# Altium integrated library LibEtudiants.IntLib: 8 symbols
Pins are listed as number, name and electrical type; pins without a type are passive.

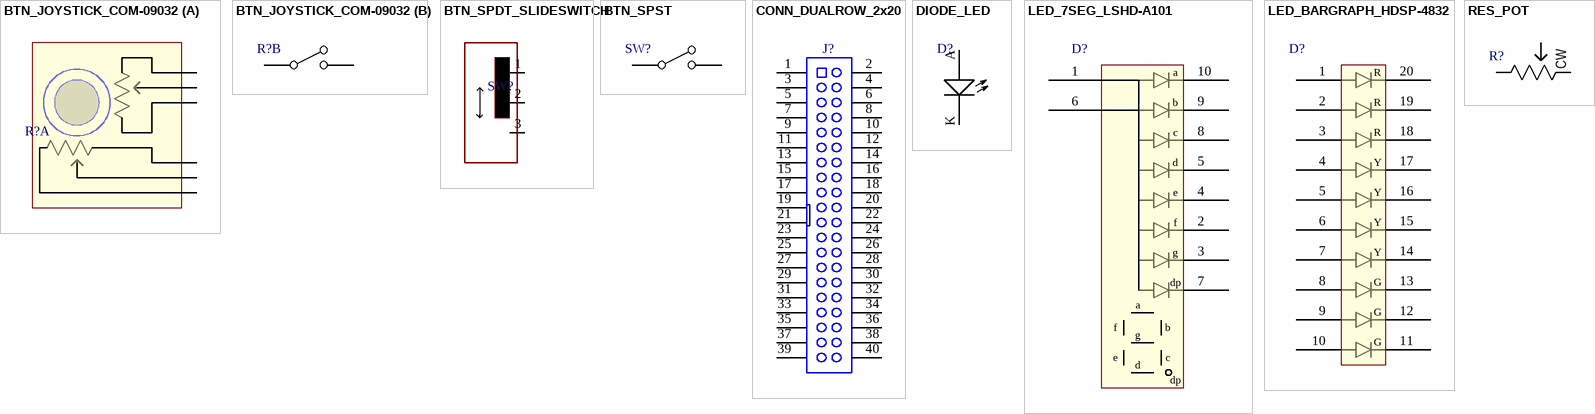
[diagram p0: symbols BTN_JOYSTICK_COM-09032 to RES_POT]

## BTN_JOYSTICK_COM-09032
designator R?, comment Dual-axis joystick  (value not drawn)
Joystick deux-axes, sorties "potentiometres"; Mfg: Sparkfun; Mfg_PN: COM-09032; Supplier1_PN: 1568-1526-ND; Supplier1: Digikey
footprint BTN_JOYSTICK_COM-09032 (Dual-axis joystick)
part A pins: X1 CCW, X2 W, X3 CW, Y1 CCW, Y2 W, Y3 CW
part B pins: SW_A A, SW_B B

## BTN_SPDT_SLIDESWITCH
designator SW?  (value not drawn)
Slide switch; Mfg: E-Switch; Mfg_PN: EG1213; Supplier1: Digikey; Supplier1_PN: EG1906-ND
footprint BTN_SPDT_EG1213 (EG1213)
footprint BTN_SPDT_EG1249 (EG1249)
pins: 1, 2, 3

## BTN_SPST
designator SW?, comment Button  (value not drawn)
SPST Button; Mfg: Wurth; Mfg_PN: 430186070716; Supplier1: Digikey; Supplier1_PN: 430186070716-ND
footprint BUTTON_SPST_WS-TATV (430186070716)
footprint BUTTON_SPST_FSMRAJ (1-1825027-7)
pins: 1, 2

## CONN_DUALROW_2x20
designator J?, comment Header  (value not drawn)
IDC Boxed Header, Straight, PCB Mount, Polarised, 40 Way, 2x20, 0.1" Pitch; Mfg: Sullins; Mfg_PN: SBH11-PBPC-D20-ST-BK; Supplier1: Digikey; Supplier1_PN: S9175-ND
footprint CONN_HDR_100mils_2x20
pins: 1, 2, 3, 4, 5, 6, 7, 8, 9, 10, 11, 12, 13, 14, 15, 16, 17, 18, 19, 20, 21, 22, 23, 24, 25, 26, 27, 28, 29, 30, 31, 32, 33, 34, 35, 36, 37, 38, 39, 40

## DIODE_LED
designator D?, comment LED  (value not drawn)
Mfg: *; Mfg_PN: *; Supplier1: *; Supplier1_PN: *
footprint DIODE_LED_5mm
pins: A, K

## LED_7SEG_LSHD-A101
designator D?, comment 7 segment display  (value not drawn)
LED 7 segment display; Mfg: Lite-On; Mfg_PN: LSHD-A101; Supplier1: Digikey; Supplier1_PN: 160-1572-5-ND
footprint LED_7SEG_LSHD-A101 (7segment display, DIP-10)
pins: 1 ANODE, 2 K F, 3 K G, 4 K E, 5 K D, 6 ANODE, 7 K H, 8 K C, 9 K B, 10 K A
text: a; b; c; d; e; f; g; dp

## LED_BARGRAPH_HDSP-4832
designator D?, comment Bargraph  (value not drawn)
LED bargraph; Mfg: Broadcom; Mfg_PN: HDSP-4832; Supplier1: Digikey; Supplier1_PN: 516-1236-5-ND
footprint LED_BARGRAPH-HDSP-4832 (Bargraph 1x10, DIP-20)
pins: 1 AN A, 2 AN B, 3 AN C, 4 AN D, 5 AN E, 6 AN F, 7 AN G, 8 AN H, 9 AN I, 10 AN J, 11 K J, 12 K I, 13 K H, 14 K G, 15 K F, 16 K E, 17 K D, 18 K C, 19 K B, 20 K A
text: R; Y; G

## RES_POT
designator R?, comment Potentiometre  (value not drawn)
Supplier1_PN: *; Supplier1: Digikey; Mfg: *; Mfg_PN: *
footprint RES_POT_LIN_PTA2043-2015CPB103 (Linear potentiometer)
footprint RES_POT_LIN_PTA4543-2015CPB103 (Linear potentiometer)
footprint RES_POT_ROT_PTV09A-4020U-B103 (Rotary potentiometer)
pins: 1 CCW, 2 W, 3 CW